# Altium footprint library footprints.PcbLib: 1 footprints
Each footprint in its own frame and in the unit in brackets; x right, y up, seen from the top. Pads: shape width x height; smd on the part's side, far side on the other; paste and mask are expansions set on the pad; w line width, h text height; cw(c..) or ccw(c..) is an arc to the next point about the centre after c.
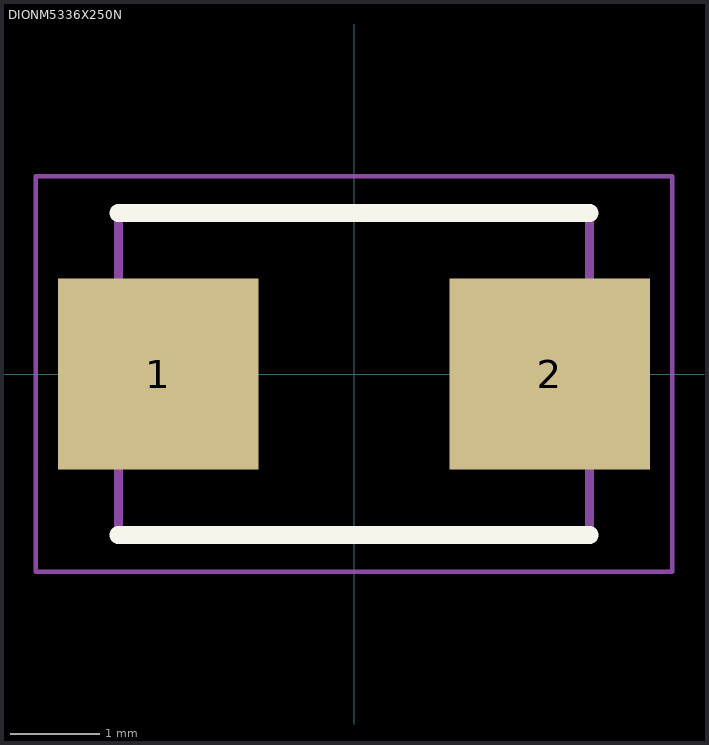
[diagram p0: the footprint, top view; thin cyan lines are the x and y axes]

## DIONM5336X250N [mm]
pads (2):
  rect 2.25x2.15 smd: 1(-2.2,0) 2(2.2,0)
Top Overlay:
  lines w0.2: -2.648,-1.81 2.648,-1.81 ; -2.648,1.81 2.648,1.81
Mechanical 13:
  lines w0.1: -2.648,-1.81 -2.648,1.81 2.648,1.81 2.648,-1.81 -2.648,-1.81
Mechanical 15:
  lines w0.05: -3.575,-2.22 -3.575,2.22 3.575,2.22 3.575,-2.22 -3.575,-2.22
3D body "B230-13-F.stp": height 2.5, standoff 0, extent -2.648,-1.81 2.648,1.81